# Altium schematic symbol library COMP_0.Schlib: 1 symbol
Pins are listed as number, name and electrical type; pins without a type are passive.

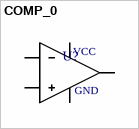
[diagram p0: symbol COMP_0]

## COMP_0
designator U?  (value not drawn)
Comparator, Single, Generic
pins: 1, 2, 3, 4, 5
text: VCC; GND